# Altium integrated library TI_Logic_Little_Logic.IntLib: 1164 symbols (part 11 of 35)
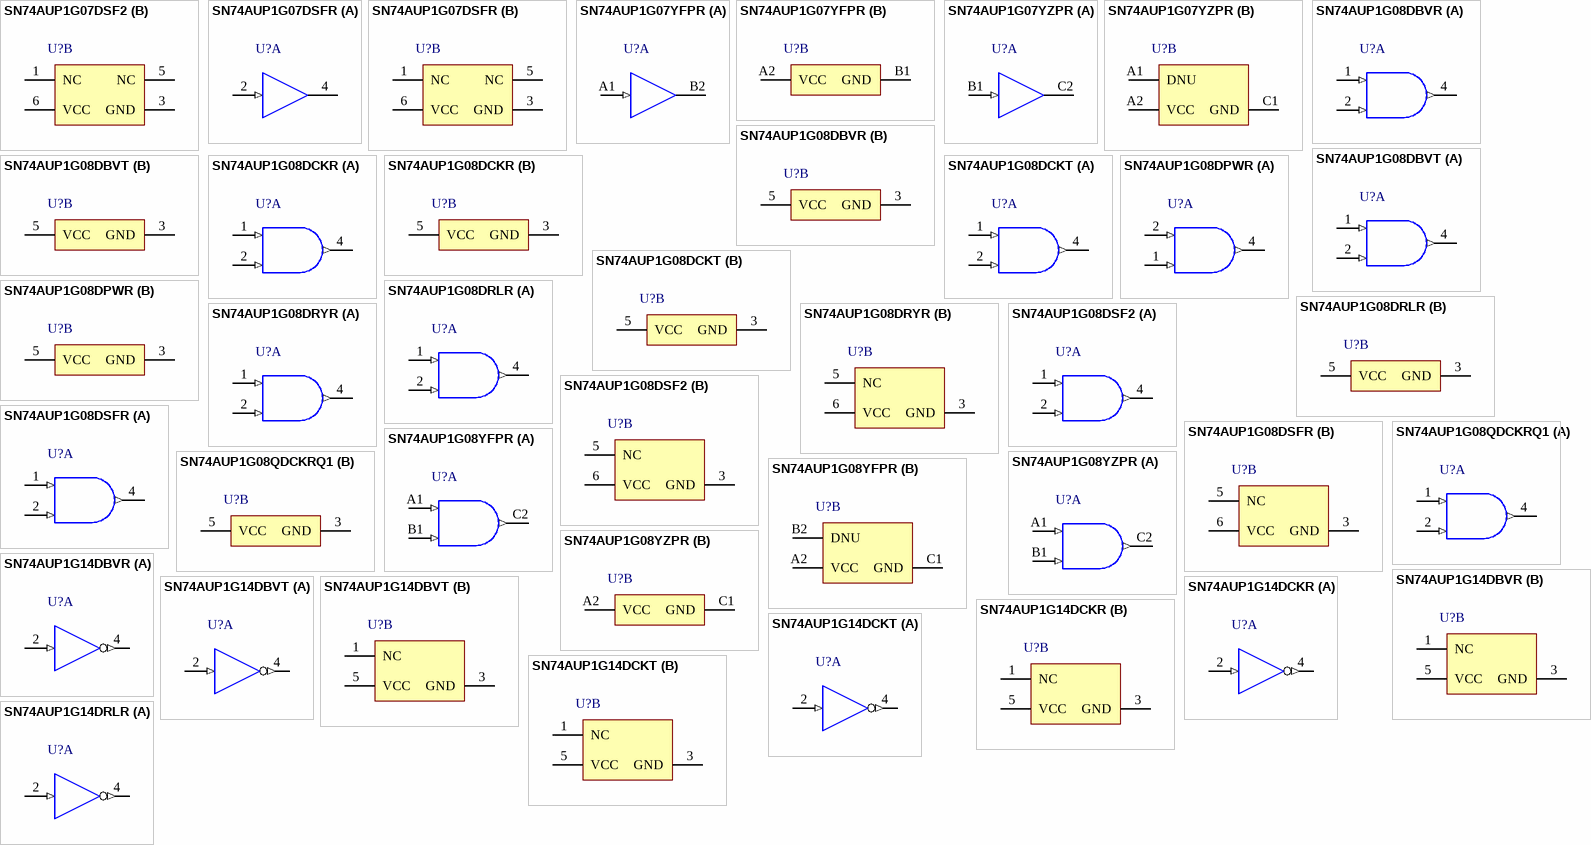
[diagram p70: symbols SN74AUP1G07DSF2 to SN74AUP1G14DRLR]

## SN74AUP1G08DRYR
designator U?
Low-Power Single 2-Input Positive-AND Gate, DRY0006A, LARGE T&R; Generic Part Number: SN74AUP1G08; Manufacturer: Texas Instruments; PartNumber: SN74AUP1G08DRYR; VCC(Min)(V): 0.8; VCC(Max)(V): 3.6; Output Type: CMOS; ICC @ Nom Voltage(Max)(mA): 0.0009; Bits(#): 1; F @ Nom Voltage(Max)(Mhz): 100; Rating: Catalog; Technology Family: AUP; Voltage(Nom)(V): 0.8,1.2,1.5,1.8,2.5,3.3; Schmitt Trigger: No; Output Drive (IOL/IOH)(Max)(mA): 20/-20; tpd @ Nom Voltage(Max)(ns): 32.8,20.9,14.2,11,7.6,6.2; Logic: True; Gate Type: AND; DatasheetVersion: SCES502O; PackageReference: DRY0006A; Supplier 1: Mouser; Supplier Part Number 1: 595-SN74AUP1G08DRYR; Supplier 2: Digi-Key; Supplier Part Number 2: 296-27268-2-ND; Supplier 3: Digi-Key; Supplier Part Number 3: 296-27268-1-ND; Supplier 4: Digi-Key; Supplier Part Number 4: 296-27268-6-ND; Input Type: CMOS; Operating Temperature Range(C): -40 to 85; Sub-Family: AND Gate; 3-State Output: No; ComponentLink1Description: Manufacturer URL; ComponentLink1URL: http://www.ti.com/; ComponentLink2Description: Datasheet; ComponentLink2URL: http://www.ti.com/lit/ds/symlink/sn74aup1g08.pdf
footprint DRY0006A_V (SON, 6-Leads, Body 1.45x1mm, Pitch 0.5mm)
part A pins: 1 A (in) "Input A", 2 B (in) "Input B", 4 Y (out) "Output Y"
part B pins: 3 GND (power) "Ground", 5 NC "No internal connection", 6 VCC (power) "Power Pin"

## SN74AUP1G08DSF2
designator U?
Low-Power Single 2-Input Positive-AND Gate, DSF0006A, LARGE T&R; Generic Part Number: SN74AUP1G08; Manufacturer: Texas Instruments; PartNumber: SN74AUP1G08DSF2; VCC(Min)(V): 0.8; VCC(Max)(V): 3.6; Output Type: CMOS; ICC @ Nom Voltage(Max)(mA): 0.0009; Bits(#): 1; F @ Nom Voltage(Max)(Mhz): 100; Rating: Catalog; Technology Family: AUP; Voltage(Nom)(V): 0.8,1.2,1.5,1.8,2.5,3.3; Schmitt Trigger: No; Output Drive (IOL/IOH)(Max)(mA): 20/-20; tpd @ Nom Voltage(Max)(ns): 32.8,20.9,14.2,11,7.6,6.2; Logic: True; Gate Type: AND; DatasheetVersion: SCES502O; PackageReference: DSF0006A; Supplier 1: Mouser; Supplier Part Number 1: 595-SN74AUP1G08DSF2; Supplier 2: Digi-Key; Supplier Part Number 2: 296-29563-2-ND; Supplier 3: Digi-Key; Supplier Part Number 3: 296-29563-1-ND; Supplier 4: Digi-Key; Supplier Part Number 4: 296-29563-6-ND; Input Type: CMOS; Operating Temperature Range(C): -40 to 85; Sub-Family: AND Gate; 3-State Output: No; ComponentLink1Description: Manufacturer URL; ComponentLink1URL: http://www.ti.com/; ComponentLink2Description: Datasheet; ComponentLink2URL: http://www.ti.com/lit/ds/symlink/sn74aup1g08.pdf
footprint DSF0006A_V (SON, 6-Leads, Body 1x1mm, Pitch 0.35mm, TI Recommend)
part A pins: 1 A (in) "Input A", 2 B (in) "Input B", 4 Y (out) "Output Y"
part B pins: 3 GND (power) "Ground", 5 NC "No internal connection", 6 VCC (power) "Power Pin"

## SN74AUP1G08DSFR
designator U?
Low-Power Single 2-Input Positive-AND Gate, DSF0006A, LARGE T&R; Generic Part Number: SN74AUP1G08; Manufacturer: Texas Instruments; PartNumber: SN74AUP1G08DSFR; VCC(Min)(V): 0.8; VCC(Max)(V): 3.6; Output Type: CMOS; ICC @ Nom Voltage(Max)(mA): 0.0009; Bits(#): 1; F @ Nom Voltage(Max)(Mhz): 100; Rating: Catalog; Technology Family: AUP; Voltage(Nom)(V): 0.8,1.2,1.5,1.8,2.5,3.3; Schmitt Trigger: No; Output Drive (IOL/IOH)(Max)(mA): 20/-20; tpd @ Nom Voltage(Max)(ns): 32.8,20.9,14.2,11,7.6,6.2; Logic: True; Gate Type: AND; DatasheetVersion: SCES502O; PackageReference: DSF0006A; Supplier 1: Mouser; Supplier Part Number 1: 595-SN74AUP1G08DSFR; Supplier 2: Digi-Key; Supplier Part Number 2: 296-25616-2-ND; Supplier 3: Digi-Key; Supplier Part Number 3: 296-25616-1-ND; Supplier 4: Digi-Key; Supplier Part Number 4: 296-25616-6-ND; Input Type: CMOS; Operating Temperature Range(C): -40 to 85; Sub-Family: AND Gate; 3-State Output: No; ComponentLink1Description: Manufacturer URL; ComponentLink1URL: http://www.ti.com/; ComponentLink2Description: Datasheet; ComponentLink2URL: http://www.ti.com/lit/ds/symlink/sn74aup1g08.pdf
footprint DSF0006A_V (SON, 6-Leads, Body 1x1mm, Pitch 0.35mm, TI Recommend)
part A pins: 1 A (in) "Input A", 2 B (in) "Input B", 4 Y (out) "Output Y"
part B pins: 3 GND (power) "Ground", 5 NC "No internal connection", 6 VCC (power) "Power Pin"

## SN74AUP1G08QDCKRQ1
designator U?
Automotive Catalog Low-Power Single 2-Input Positive-AND Gate, DCK0005A, LARGE T&R; Generic Part Number: SN74AUP1G08-Q1; Manufacturer: Texas Instruments; PartNumber: SN74AUP1G08QDCKRQ1; VCC(Min)(V): 0.8; VCC(Max)(V): 3.6; Output Type: CMOS; ICC @ Nom Voltage(Max)(mA): 0.0009; Bits(#): 1; F @ Nom Voltage(Max)(Mhz): 100; Technology Family: AUP; Voltage(Nom)(V): 0.8,1.2,1.5,1.8,2.5,3.3; Schmitt Trigger: No; Output Drive (IOL/IOH)(Max)(mA): 20/-20; tpd @ Nom Voltage(Max)(ns): 32.8,20.9,14.2,11,7.6,6.2; Logic: True; Gate Type: AND; DatasheetVersion: SCES847; PackageReference: DCK0005A; Supplier 1: Mouser; Supplier Part Number 1: 595-74AUP1G08QDCKRQ1; Supplier 2: Digi-Key; Supplier Part Number 2: SN74AUP1G08QDCKRQ1TR-ND; Supplier 3: Digi-Key; Supplier Part Number 3: SN74AUP1G08QDCKRQ1CT-ND; Supplier 4: Digi-Key; Supplier Part Number 4: SN74AUP1G08QDCKRQ1DKR-ND; Input Type: CMOS; Operating Temperature Range(C): -40 to 125; Rating: Automotive; Sub-Family: AND Gate; 3-State Output: No; ComponentLink1Description: Manufacturer URL; ComponentLink1URL: http://www.ti.com/; ComponentLink2Description: Datasheet; ComponentLink2URL: http://www.ti.com/lit/ds/symlink/sn74aup1g08-q1.pdf
footprint DCK0005A_N (SOT23, 5-Leads, Body 2.15x1.4mm, Pitch 0.65mm, IPC Medium Density)
footprint DCK0005A_M (SOT23, 5-Leads, Body 2.15x1.4mm, Pitch 0.65mm, IPC Low Density)
footprint DCK0005A_L (SOT23, 5-Leads, Body 2.15x1.4mm, Pitch 0.65mm, IPC High Density)
part A pins: 1 A (in) "Input A", 2 B (in) "Input B", 4 Y (out) "Output Y"
part B pins: 3 GND (power) "Ground Pin", 5 VCC (power) "Power Pin"

## SN74AUP1G08YFPR
designator U?
Low-Power Single 2-Input Positive-AND Gate, YZP0006AAAA, LARGE T&R; Generic Part Number: SN74AUP1G08; Manufacturer: Texas Instruments; PartNumber: SN74AUP1G08YFPR; VCC(Min)(V): 0.8; VCC(Max)(V): 3.6; Output Type: CMOS; ICC @ Nom Voltage(Max)(mA): 0.0009; Bits(#): 1; F @ Nom Voltage(Max)(Mhz): 100; Rating: Catalog; Technology Family: AUP; Voltage(Nom)(V): 0.8,1.2,1.5,1.8,2.5,3.3; Schmitt Trigger: No; Output Drive (IOL/IOH)(Max)(mA): 20/-20; tpd @ Nom Voltage(Max)(ns): 32.8,20.9,14.2,11,7.6,6.2; Logic: True; Gate Type: AND; DatasheetVersion: SCES502O; PackageReference: YZP0006AAAA; Supplier 1: Mouser; Supplier Part Number 1: 595-SN74AUP1G08YFPR; Supplier 2: Digi-Key; Supplier Part Number 2: 296-25393-2-ND; Supplier 3: Digi-Key; Supplier Part Number 3: 296-25393-1-ND; Supplier 4: Digi-Key; Supplier Part Number 4: 296-25393-6-ND; Input Type: CMOS; Operating Temperature Range(C): -40 to 85; Sub-Family: AND Gate; 3-State Output: No; ComponentLink1Description: Manufacturer URL; ComponentLink1URL: http://www.ti.com/; ComponentLink2Description: Datasheet; ComponentLink2URL: http://www.ti.com/lit/ds/symlink/sn74aup1g08.pdf
footprint YZP0006AAAA (BGA, 6-Balls, Body 1.16x0.76mm, Pitch 0.4mm)
part A pins: A1 A (in) "Input A", B1 B (in) "Input B", C2 Y (out) "Output Y"
part B pins: A2 VCC (power) "Power Pin", B2 DNU "Do not use", C1 GND (power) "Ground"

## SN74AUP1G08YZPR
designator U?
Low-Power Single 2-Input Positive-AND Gate, YZP0005ADAD, LARGE T&R; Generic Part Number: SN74AUP1G08; Manufacturer: Texas Instruments; PartNumber: SN74AUP1G08YZPR; VCC(Min)(V): 0.8; VCC(Max)(V): 3.6; Output Type: CMOS; ICC @ Nom Voltage(Max)(mA): 0.0009; Bits(#): 1; F @ Nom Voltage(Max)(Mhz): 100; Rating: Catalog; Technology Family: AUP; Voltage(Nom)(V): 0.8,1.2,1.5,1.8,2.5,3.3; Schmitt Trigger: No; Output Drive (IOL/IOH)(Max)(mA): 20/-20; tpd @ Nom Voltage(Max)(ns): 32.8,20.9,14.2,11,7.6,6.2; Logic: True; Gate Type: AND; DatasheetVersion: SCES502O; PackageReference: YZP0005ADAD; Supplier 1: Mouser; Supplier Part Number 1: 595-SN74AUP1G08YZPR; Supplier 2: Digi-Key; Supplier Part Number 2: 296-17366-2-ND; Supplier 3: Digi-Key; Supplier Part Number 3: 296-17366-1-ND; Supplier 4: Digi-Key; Supplier Part Number 4: 296-17366-6-ND; Input Type: CMOS; Operating Temperature Range(C): -40 to 85; Sub-Family: AND Gate; 3-State Output: No; ComponentLink1Description: Manufacturer URL; ComponentLink1URL: http://www.ti.com/; ComponentLink2Description: Datasheet; ComponentLink2URL: http://www.ti.com/lit/ds/symlink/sn74aup1g08.pdf
footprint YZP0005ADAD (BGA, 5-Balls, Body 1.39x0.89mm, Pitch 0.5mm)
part A pins: A1 A (in) "Input", B1 B (in) "Input", C2 Y (out) "Output"
part B pins: A2 VCC (power) "Power pin", C1 GND (power) "Ground"

## SN74AUP1G14DBVR
designator U?
Low-Power Single Schmitt-Trigger Inverter, DBV0005A, LARGE T&R; Generic Part Number: SN74AUP1G14; Manufacturer: Texas Instruments; PartNumber: SN74AUP1G14DBVR; VCC(Min)(V): 0.8; VCC(Max)(V): 3.6; Output Type: CMOS; ICC @ Nom Voltage(Max)(mA): 0.0009; Bits(#): 1; F @ Nom Voltage(Max)(Mhz): 100; Rating: Catalog; Technology Family: AUP; Voltage(Nom)(V): 0.8,1.2,1.5,1.8,2.5,3.3; Schmitt Trigger: No; Output Drive (IOL/IOH)(Max)(mA): 20/-20; tpd @ Nom Voltage(Max)(ns): 25.7,17.1,12.3,10.3,7.4,6.2; Logic: Inverting; Sub-Family: Inverting Buffer/Driver; DatasheetVersion: SCES578I; PackageReference: DBV0005A; Supplier 1: Mouser; Supplier Part Number 1: 595-SN74AUP1G14DBVR; Supplier 2: Digi-Key; Supplier Part Number 2: 296-18213-2-ND; Supplier 3: Digi-Key; Supplier Part Number 3: 296-18213-1-ND; Supplier 4: Digi-Key; Supplier Part Number 4: 296-18213-6-ND; Input Type: CMOS; Operating Temperature Range(C): -40 to 85; 3-State Output: No; ComponentLink1Description: Manufacturer URL; ComponentLink1URL: http://www.ti.com/; ComponentLink2Description: Datasheet; ComponentLink2URL: http://www.ti.com/lit/ds/symlink/sn74aup1g14.pdf
footprint DBV0005A_N (SOT23, 5-Leads, Body 3.05x1.75mm, Pitch 0.95mm, IPC Medium Density)
footprint DBV0005A_M (SOT23, 5-Leads, Body 3.05x1.75mm, Pitch 0.95mm, IPC Low Density)
footprint DBV0005A_L (SOT23, 5-Leads, Body 3.05x1.75mm, Pitch 0.95mm, IPC High Density)
part A pins: 2 A (in) "Input A", 4 Y (out) "Output Y"
part B pins: 1 NC "Ground", 3 GND (power) "Ground Pin", 5 VCC (power) "Power Pin"

## SN74AUP1G14DBVT
designator U?
Low-Power Single Schmitt-Trigger Inverter, DBV0005A, SMALL T&R; Generic Part Number: SN74AUP1G14; Manufacturer: Texas Instruments; PartNumber: SN74AUP1G14DBVT; VCC(Min)(V): 0.8; VCC(Max)(V): 3.6; Output Type: CMOS; ICC @ Nom Voltage(Max)(mA): 0.0009; Bits(#): 1; F @ Nom Voltage(Max)(Mhz): 100; Rating: Catalog; Technology Family: AUP; Voltage(Nom)(V): 0.8,1.2,1.5,1.8,2.5,3.3; Schmitt Trigger: No; Output Drive (IOL/IOH)(Max)(mA): 20/-20; tpd @ Nom Voltage(Max)(ns): 25.7,17.1,12.3,10.3,7.4,6.2; Logic: Inverting; Sub-Family: Inverting Buffer/Driver; DatasheetVersion: SCES578I; PackageReference: DBV0005A; Supplier 1: Mouser; Supplier Part Number 1: 595-SN74AUP1G14DBVT; Supplier 2: Digi-Key; Supplier Part Number 2: 296-41492-2-ND; Supplier 3: Digi-Key; Supplier Part Number 3: 296-41492-1-ND; Supplier 4: Digi-Key; Supplier Part Number 4: 296-41492-6-ND; Input Type: CMOS; Operating Temperature Range(C): -40 to 85; 3-State Output: No; ComponentLink1Description: Manufacturer URL; ComponentLink1URL: http://www.ti.com/; ComponentLink2Description: Datasheet; ComponentLink2URL: http://www.ti.com/lit/ds/symlink/sn74aup1g14.pdf
footprint DBV0005A_N (SOT23, 5-Leads, Body 3.05x1.75mm, Pitch 0.95mm, IPC Medium Density)
footprint DBV0005A_M (SOT23, 5-Leads, Body 3.05x1.75mm, Pitch 0.95mm, IPC Low Density)
footprint DBV0005A_L (SOT23, 5-Leads, Body 3.05x1.75mm, Pitch 0.95mm, IPC High Density)
part A pins: 2 A (in) "Input A", 4 Y (out) "Output Y"
part B pins: 1 NC "Ground", 3 GND (power) "Ground Pin", 5 VCC (power) "Power Pin"

## SN74AUP1G14DCKR
designator U?
Low-Power Single Schmitt-Trigger Inverter, DCK0005A, LARGE T&R; Generic Part Number: SN74AUP1G14; Manufacturer: Texas Instruments; PartNumber: SN74AUP1G14DCKR; VCC(Min)(V): 0.8; VCC(Max)(V): 3.6; Output Type: CMOS; ICC @ Nom Voltage(Max)(mA): 0.0009; Bits(#): 1; F @ Nom Voltage(Max)(Mhz): 100; Rating: Catalog; Technology Family: AUP; Voltage(Nom)(V): 0.8,1.2,1.5,1.8,2.5,3.3; Schmitt Trigger: No; Output Drive (IOL/IOH)(Max)(mA): 20/-20; tpd @ Nom Voltage(Max)(ns): 25.7,17.1,12.3,10.3,7.4,6.2; Logic: Inverting; Sub-Family: Inverting Buffer/Driver; DatasheetVersion: SCES578I; PackageReference: DCK0005A; Supplier 1: Mouser; Supplier Part Number 1: 595-SN74AUP1G14DCKR; Supplier 2: Digi-Key; Supplier Part Number 2: 296-19076-2-ND; Supplier 3: Digi-Key; Supplier Part Number 3: 296-19076-1-ND; Supplier 4: Digi-Key; Supplier Part Number 4: 296-19076-6-ND; Input Type: CMOS; Operating Temperature Range(C): -40 to 85; 3-State Output: No; ComponentLink1Description: Manufacturer URL; ComponentLink1URL: http://www.ti.com/; ComponentLink2Description: Datasheet; ComponentLink2URL: http://www.ti.com/lit/ds/symlink/sn74aup1g14.pdf
footprint DCK0005A_N (SOT23, 5-Leads, Body 2.15x1.4mm, Pitch 0.65mm, IPC Medium Density)
footprint DCK0005A_M (SOT23, 5-Leads, Body 2.15x1.4mm, Pitch 0.65mm, IPC Low Density)
footprint DCK0005A_L (SOT23, 5-Leads, Body 2.15x1.4mm, Pitch 0.65mm, IPC High Density)
part A pins: 2 A (in) "Input A", 4 Y (out) "Output Y"
part B pins: 1 NC "Ground", 3 GND (power) "Ground Pin", 5 VCC (power) "Power Pin"

## SN74AUP1G14DCKT
designator U?
Low-Power Single Schmitt-Trigger Inverter, DCK0005A, SMALL T&R; Generic Part Number: SN74AUP1G14; Manufacturer: Texas Instruments; PartNumber: SN74AUP1G14DCKT; VCC(Min)(V): 0.8; VCC(Max)(V): 3.6; Output Type: CMOS; ICC @ Nom Voltage(Max)(mA): 0.0009; Bits(#): 1; F @ Nom Voltage(Max)(Mhz): 100; Rating: Catalog; Technology Family: AUP; Voltage(Nom)(V): 0.8,1.2,1.5,1.8,2.5,3.3; Schmitt Trigger: No; Output Drive (IOL/IOH)(Max)(mA): 20/-20; tpd @ Nom Voltage(Max)(ns): 25.7,17.1,12.3,10.3,7.4,6.2; Logic: Inverting; Sub-Family: Inverting Buffer/Driver; DatasheetVersion: SCES578I; PackageReference: DCK0005A; Supplier 1: Mouser; Supplier Part Number 1: 595-SN74AUP1G14DCKT; Supplier 2: Digi-Key; Supplier Part Number 2: 296-41493-2-ND; Supplier 3: Digi-Key; Supplier Part Number 3: 296-41493-1-ND; Supplier 4: Digi-Key; Supplier Part Number 4: 296-41493-6-ND; Input Type: CMOS; Operating Temperature Range(C): -40 to 85; 3-State Output: No; ComponentLink1Description: Manufacturer URL; ComponentLink1URL: http://www.ti.com/; ComponentLink2Description: Datasheet; ComponentLink2URL: http://www.ti.com/lit/ds/symlink/sn74aup1g14.pdf
footprint DCK0005A_N (SOT23, 5-Leads, Body 2.15x1.4mm, Pitch 0.65mm, IPC Medium Density)
footprint DCK0005A_M (SOT23, 5-Leads, Body 2.15x1.4mm, Pitch 0.65mm, IPC Low Density)
footprint DCK0005A_L (SOT23, 5-Leads, Body 2.15x1.4mm, Pitch 0.65mm, IPC High Density)
part A pins: 2 A (in) "Input A", 4 Y (out) "Output Y"
part B pins: 1 NC "Ground", 3 GND (power) "Ground Pin", 5 VCC (power) "Power Pin"

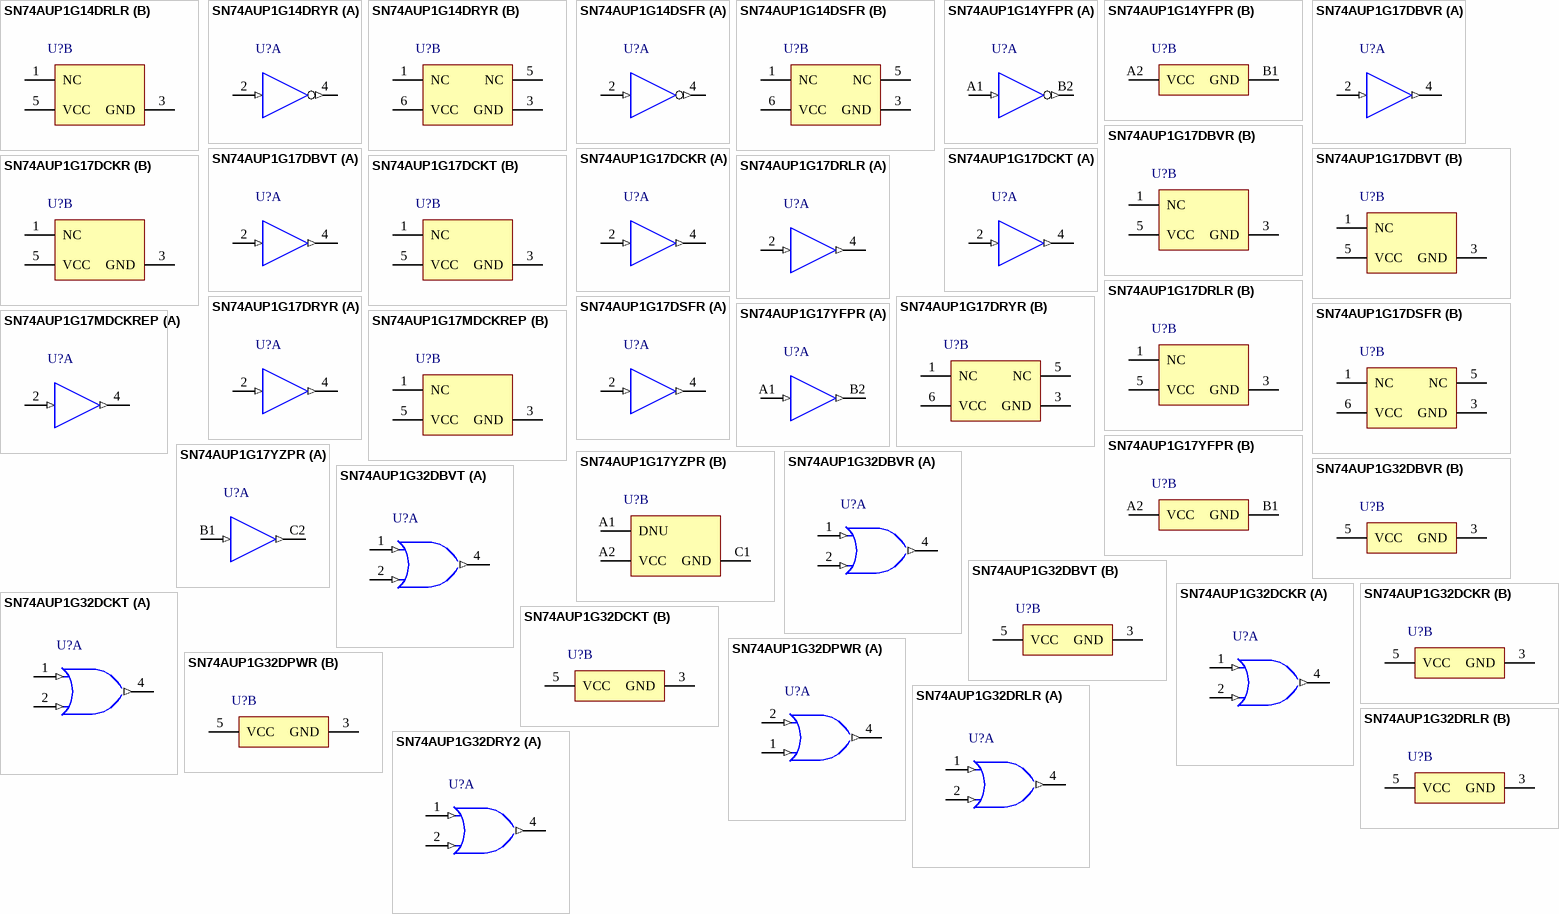
[diagram p18: symbols SN74AUP1G14DRLR to SN74AUP1G32DRY2]

## SN74AUP1G14DRLR
designator U?
Low-Power Single Schmitt-Trigger Inverter, DRL0005A, LARGE T&R; Generic Part Number: SN74AUP1G14; Manufacturer: Texas Instruments; PartNumber: SN74AUP1G14DRLR; VCC(Min)(V): 0.8; VCC(Max)(V): 3.6; Output Type: CMOS; ICC @ Nom Voltage(Max)(mA): 0.0009; Bits(#): 1; F @ Nom Voltage(Max)(Mhz): 100; Rating: Catalog; Technology Family: AUP; Voltage(Nom)(V): 0.8,1.2,1.5,1.8,2.5,3.3; Schmitt Trigger: No; Output Drive (IOL/IOH)(Max)(mA): 20/-20; tpd @ Nom Voltage(Max)(ns): 25.7,17.1,12.3,10.3,7.4,6.2; Logic: Inverting; Sub-Family: Inverting Buffer/Driver; DatasheetVersion: SCES578I; PackageReference: DRL0005A; Supplier 1: Mouser; Supplier Part Number 1: 595-SN74AUP1G14DRLR; Supplier 2: Digi-Key; Supplier Part Number 2: 296-18314-2-ND; Supplier 3: Digi-Key; Supplier Part Number 3: 296-18314-1-ND; Supplier 4: Digi-Key; Supplier Part Number 4: 296-18314-6-ND; Input Type: CMOS; Operating Temperature Range(C): -40 to 85; 3-State Output: No; ComponentLink1Description: Manufacturer URL; ComponentLink1URL: http://www.ti.com/; ComponentLink2Description: Datasheet; ComponentLink2URL: http://www.ti.com/lit/ds/symlink/sn74aup1g14.pdf
footprint DRL0005A_N (SOT23, 5-Leads, Body 1.7x1.3mm, Pitch 0.5mm, IPC Medium Density)
footprint DRL0005A_M (SOT23, 5-Leads, Body 1.7x1.3mm, Pitch 0.5mm, IPC Low Density)
footprint DRL0005A_L (SOT23, 5-Leads, Body 1.7x1.3mm, Pitch 0.5mm, IPC High Density)
part A pins: 2 A (in) "Input A", 4 Y (out) "Output Y"
part B pins: 1 NC "Ground", 3 GND (power) "Ground Pin", 5 VCC (power) "Power Pin"

## SN74AUP1G14DRYR
designator U?
Low-Power Single Schmitt-Trigger Inverter, DRY0006A, LARGE T&R; Generic Part Number: SN74AUP1G14; Manufacturer: Texas Instruments; PartNumber: SN74AUP1G14DRYR; VCC(Min)(V): 0.8; VCC(Max)(V): 3.6; Output Type: CMOS; ICC @ Nom Voltage(Max)(mA): 0.0009; Bits(#): 1; F @ Nom Voltage(Max)(Mhz): 100; Rating: Catalog; Technology Family: AUP; Voltage(Nom)(V): 0.8,1.2,1.5,1.8,2.5,3.3; Schmitt Trigger: No; Output Drive (IOL/IOH)(Max)(mA): 20/-20; tpd @ Nom Voltage(Max)(ns): 25.7,17.1,12.3,10.3,7.4,6.2; Logic: Inverting; Sub-Family: Inverting Buffer/Driver; DatasheetVersion: SCES578I; PackageReference: DRY0006A; Supplier 1: Mouser; Supplier Part Number 1: 595-SN74AUP1G14DRYR; Supplier 2: Digi-Key; Supplier Part Number 2: 296-27271-2-ND; Supplier 3: Digi-Key; Supplier Part Number 3: 296-27271-1-ND; Supplier 4: Digi-Key; Supplier Part Number 4: 296-27271-6-ND; Input Type: CMOS; Operating Temperature Range(C): -40 to 85; 3-State Output: No; ComponentLink1Description: Manufacturer URL; ComponentLink1URL: http://www.ti.com/; ComponentLink2Description: Datasheet; ComponentLink2URL: http://www.ti.com/lit/ds/symlink/sn74aup1g14.pdf
footprint DRY0006A_V (SON, 6-Leads, Body 1.45x1mm, Pitch 0.5mm)
part A pins: 2 A (in), 4 Y (out)
part B pins: 1 NC, 3 GND (power), 5 NC, 6 VCC (power)

## SN74AUP1G14DSFR
designator U?
Low-Power Single Schmitt-Trigger Inverter, DSF0006A, LARGE T&R; Generic Part Number: SN74AUP1G14; Manufacturer: Texas Instruments; PartNumber: SN74AUP1G14DSFR; VCC(Min)(V): 0.8; VCC(Max)(V): 3.6; Output Type: CMOS; ICC @ Nom Voltage(Max)(mA): 0.0009; Bits(#): 1; F @ Nom Voltage(Max)(Mhz): 100; Rating: Catalog; Technology Family: AUP; Voltage(Nom)(V): 0.8,1.2,1.5,1.8,2.5,3.3; Schmitt Trigger: No; Output Drive (IOL/IOH)(Max)(mA): 20/-20; tpd @ Nom Voltage(Max)(ns): 25.7,17.1,12.3,10.3,7.4,6.2; Logic: Inverting; Sub-Family: Inverting Buffer/Driver; DatasheetVersion: SCES578I; PackageReference: DSF0006A; Supplier 1: Mouser; Supplier Part Number 1: 595-SN74AUP1G14DSFR; Supplier 2: Digi-Key; Supplier Part Number 2: 296-27309-2-ND; Supplier 3: Digi-Key; Supplier Part Number 3: 296-27309-1-ND; Supplier 4: Digi-Key; Supplier Part Number 4: 296-27309-6-ND; Input Type: CMOS; Operating Temperature Range(C): -40 to 85; 3-State Output: No; ComponentLink1Description: Manufacturer URL; ComponentLink1URL: http://www.ti.com/; ComponentLink2Description: Datasheet; ComponentLink2URL: http://www.ti.com/lit/ds/symlink/sn74aup1g14.pdf
footprint DSF0006A_V (SON, 6-Leads, Body 1x1mm, Pitch 0.35mm, TI Recommend)
part A pins: 2 A (in), 4 Y (out)
part B pins: 1 NC, 3 GND (power), 5 NC, 6 VCC (power)

## SN74AUP1G14YFPR
designator U?
Low-Power Single Schmitt-Trigger Inverter, YZP0004AAAA, LARGE T&R; Generic Part Number: SN74AUP1G14; Manufacturer: Texas Instruments; PartNumber: SN74AUP1G14YFPR; VCC(Min)(V): 0.8; VCC(Max)(V): 3.6; Output Type: CMOS; ICC @ Nom Voltage(Max)(mA): 0.0009; Bits(#): 1; F @ Nom Voltage(Max)(Mhz): 100; Rating: Catalog; Technology Family: AUP; Voltage(Nom)(V): 0.8,1.2,1.5,1.8,2.5,3.3; Schmitt Trigger: No; Output Drive (IOL/IOH)(Max)(mA): 20/-20; tpd @ Nom Voltage(Max)(ns): 25.7,17.1,12.3,10.3,7.4,6.2; Logic: Inverting; Sub-Family: Inverting Buffer/Driver; DatasheetVersion: SCES578I; PackageReference: YZP0004AAAA; Supplier 1: Mouser; Supplier Part Number 1: 595-SN74AUP1G14YFPR; Supplier 2: Digi-Key; Supplier Part Number 2: 296-25199-2-ND; Supplier 3: Digi-Key; Supplier Part Number 3: 296-25199-1-ND; Supplier 4: Digi-Key; Supplier Part Number 4: 296-25199-6-ND; Input Type: CMOS; Operating Temperature Range(C): -40 to 85; 3-State Output: No; ComponentLink1Description: Manufacturer URL; ComponentLink1URL: http://www.ti.com/; ComponentLink2Description: Datasheet; ComponentLink2URL: http://www.ti.com/lit/ds/symlink/sn74aup1g14.pdf
footprint YZP0004AAAA (BGA, 4-Balls, Body 0.76x0.76mm, Pitch 0.4mm)
part A pins: A1 A (in) "Input", B2 Y (out) "Output"
part B pins: A2 VCC (power) "Power pin", B1 GND (power) "Ground"

## SN74AUP1G17DBVR
designator U?
Low-Power Single Schmitt-Trigger Buffer, DBV0005A, LARGE T&R; Generic Part Number: SN74AUP1G17; Manufacturer: Texas Instruments; PartNumber: SN74AUP1G17DBVR; VCC(Min)(V): 0.8; VCC(Max)(V): 3.6; Output Type: CMOS; ICC @ Nom Voltage(Max)(mA): 0.0009; Bits(#): 1; F @ Nom Voltage(Max)(Mhz): 100; Rating: Catalog; Technology Family: AUP; Voltage(Nom)(V): 0.8,1.2,1.5,1.8,2.5,3.3; Schmitt Trigger: Yes; Output Drive (IOL/IOH)(Max)(mA): 20/-20; tpd @ Nom Voltage(Max)(ns): 35.1,18.1,12.9,11,7.9,6.7; Logic: True; Sub-Family: Non-Inverting Buffer/Driver; 3-State Output: No; DatasheetVersion: SCES579I; PackageReference: DBV0005A; Supplier 1: Mouser; Supplier Part Number 1: 595-SN74AUP1G17DBVR; Supplier 2: Digi-Key; Supplier Part Number 2: 296-19077-2-ND; Supplier 3: Digi-Key; Supplier Part Number 3: 296-19077-1-ND; Supplier 4: Digi-Key; Supplier Part Number 4: 296-19077-6-ND; Input Type: CMOS; Operating Temperature Range(C): -40 to 85; ComponentLink1Description: Manufacturer URL; ComponentLink1URL: http://www.ti.com/; ComponentLink2Description: Datasheet; ComponentLink2URL: http://www.ti.com/lit/ds/symlink/sn74aup1g17.pdf
footprint DBV0005A_N (SOT23, 5-Leads, Body 3.05x1.75mm, Pitch 0.95mm, IPC Medium Density)
footprint DBV0005A_M (SOT23, 5-Leads, Body 3.05x1.75mm, Pitch 0.95mm, IPC Low Density)
footprint DBV0005A_L (SOT23, 5-Leads, Body 3.05x1.75mm, Pitch 0.95mm, IPC High Density)
part A pins: 2 A (in) "Input", 4 Y (out) "Output"
part B pins: 1 NC "Ground", 3 GND (power) "Ground Pin", 5 VCC (power) "Power Pin"

## SN74AUP1G17DBVT
designator U?
Low-Power Single Schmitt-Trigger Buffer, DBV0005A, SMALL T&R; Generic Part Number: SN74AUP1G17; Manufacturer: Texas Instruments; PartNumber: SN74AUP1G17DBVT; VCC(Min)(V): 0.8; VCC(Max)(V): 3.6; Output Type: CMOS; ICC @ Nom Voltage(Max)(mA): 0.0009; Bits(#): 1; F @ Nom Voltage(Max)(Mhz): 100; Rating: Catalog; Technology Family: AUP; Voltage(Nom)(V): 0.8,1.2,1.5,1.8,2.5,3.3; Schmitt Trigger: Yes; Output Drive (IOL/IOH)(Max)(mA): 20/-20; tpd @ Nom Voltage(Max)(ns): 35.1,18.1,12.9,11,7.9,6.7; Logic: True; Sub-Family: Non-Inverting Buffer/Driver; 3-State Output: No; DatasheetVersion: SCES579I; PackageReference: DBV0005A; Supplier 1: Mouser; Supplier Part Number 1: 595-SN74AUP1G17DBVT; Supplier 2: Digi-Key; Supplier Part Number 2: SN74AUP1G17DBVT-ND; Input Type: CMOS; Operating Temperature Range(C): -40 to 85; ComponentLink1Description: Manufacturer URL; ComponentLink1URL: http://www.ti.com/; ComponentLink2Description: Datasheet; ComponentLink2URL: http://www.ti.com/lit/ds/symlink/sn74aup1g17.pdf
footprint DBV0005A_N (SOT23, 5-Leads, Body 3.05x1.75mm, Pitch 0.95mm, IPC Medium Density)
footprint DBV0005A_M (SOT23, 5-Leads, Body 3.05x1.75mm, Pitch 0.95mm, IPC Low Density)
footprint DBV0005A_L (SOT23, 5-Leads, Body 3.05x1.75mm, Pitch 0.95mm, IPC High Density)
part A pins: 2 A (in) "Input", 4 Y (out) "Output"
part B pins: 1 NC "Ground", 3 GND (power) "Ground Pin", 5 VCC (power) "Power Pin"

## SN74AUP1G17DCKR
designator U?
Low-Power Single Schmitt-Trigger Buffer, DCK0005A, LARGE T&R; Generic Part Number: SN74AUP1G17; Manufacturer: Texas Instruments; PartNumber: SN74AUP1G17DCKR; VCC(Min)(V): 0.8; VCC(Max)(V): 3.6; Output Type: CMOS; ICC @ Nom Voltage(Max)(mA): 0.0009; Bits(#): 1; F @ Nom Voltage(Max)(Mhz): 100; Rating: Catalog; Technology Family: AUP; Voltage(Nom)(V): 0.8,1.2,1.5,1.8,2.5,3.3; Schmitt Trigger: Yes; Output Drive (IOL/IOH)(Max)(mA): 20/-20; tpd @ Nom Voltage(Max)(ns): 35.1,18.1,12.9,11,7.9,6.7; Logic: True; Sub-Family: Non-Inverting Buffer/Driver; 3-State Output: No; DatasheetVersion: SCES579I; PackageReference: DCK0005A; Supplier 1: Mouser; Supplier Part Number 1: 595-SN74AUP1G17DCKR; Supplier 2: Digi-Key; Supplier Part Number 2: 296-18209-2-ND; Supplier 3: Digi-Key; Supplier Part Number 3: 296-18209-1-ND; Supplier 4: Digi-Key; Supplier Part Number 4: 296-18209-6-ND; Input Type: CMOS; Operating Temperature Range(C): -40 to 85; ComponentLink1Description: Manufacturer URL; ComponentLink1URL: http://www.ti.com/; ComponentLink2Description: Datasheet; ComponentLink2URL: http://www.ti.com/lit/ds/symlink/sn74aup1g17.pdf
footprint DCK0005A_N (SOT23, 5-Leads, Body 2.15x1.4mm, Pitch 0.65mm, IPC Medium Density)
footprint DCK0005A_M (SOT23, 5-Leads, Body 2.15x1.4mm, Pitch 0.65mm, IPC Low Density)
footprint DCK0005A_L (SOT23, 5-Leads, Body 2.15x1.4mm, Pitch 0.65mm, IPC High Density)
part A pins: 2 A (in) "Input", 4 Y (out) "Output"
part B pins: 1 NC "Ground", 3 GND (power) "Ground Pin", 5 VCC (power) "Power Pin"

## SN74AUP1G17DCKT
designator U?
Low-Power Single Schmitt-Trigger Buffer, DCK0005A, SMALL T&R; Generic Part Number: SN74AUP1G17; Manufacturer: Texas Instruments; PartNumber: SN74AUP1G17DCKT; VCC(Min)(V): 0.8; VCC(Max)(V): 3.6; Output Type: CMOS; ICC @ Nom Voltage(Max)(mA): 0.0009; Bits(#): 1; F @ Nom Voltage(Max)(Mhz): 100; Rating: Catalog; Technology Family: AUP; Voltage(Nom)(V): 0.8,1.2,1.5,1.8,2.5,3.3; Schmitt Trigger: Yes; Output Drive (IOL/IOH)(Max)(mA): 20/-20; tpd @ Nom Voltage(Max)(ns): 35.1,18.1,12.9,11,7.9,6.7; Logic: True; Sub-Family: Non-Inverting Buffer/Driver; 3-State Output: No; DatasheetVersion: SCES579I; PackageReference: DCK0005A; Supplier 1: Mouser; Supplier Part Number 1: 595-SN74AUP1G17DCKT; Supplier 2: Digi-Key; Supplier Part Number 2: SN74AUP1G17DCKT-ND; Input Type: CMOS; Operating Temperature Range(C): -40 to 85; ComponentLink1Description: Manufacturer URL; ComponentLink1URL: http://www.ti.com/; ComponentLink2Description: Datasheet; ComponentLink2URL: http://www.ti.com/lit/ds/symlink/sn74aup1g17.pdf
footprint DCK0005A_N (SOT23, 5-Leads, Body 2.15x1.4mm, Pitch 0.65mm, IPC Medium Density)
footprint DCK0005A_M (SOT23, 5-Leads, Body 2.15x1.4mm, Pitch 0.65mm, IPC Low Density)
footprint DCK0005A_L (SOT23, 5-Leads, Body 2.15x1.4mm, Pitch 0.65mm, IPC High Density)
part A pins: 2 A (in) "Input", 4 Y (out) "Output"
part B pins: 1 NC "Ground", 3 GND (power) "Ground Pin", 5 VCC (power) "Power Pin"

## SN74AUP1G17DRLR
designator U?
Low-Power Single Schmitt-Trigger Buffer, DRL0005A; Generic Part Number: SN74AUP1G17; Manufacturer: Texas Instruments; PartNumber: SN74AUP1G17DRLR; VCC(Min)(V): 0.8; VCC(Max)(V): 3.6; Output Type: CMOS; ICC @ Nom Voltage(Max)(mA): 0.0009; Bits(#): 1; F @ Nom Voltage(Max)(Mhz): 100; Rating: Catalog; Technology Family: AUP; Voltage(Nom)(V): 0.8,1.2,1.5,1.8,2.5,3.3; Schmitt Trigger: Yes; Output Drive (IOL/IOH)(Max)(mA): 20/-20; tpd @ Nom Voltage(Max)(ns): 35.1,18.1,12.9,11,7.9,6.7; Logic: True; Sub-Family: Non-Inverting Buffer/Driver; 3-State Output: No; DatasheetVersion: SCES579I; PackageReference: DRL0005A; Supplier 1: Mouser; Supplier Part Number 1: 595-SN74AUP1G17DRLR; Supplier 2: Digi-Key; Supplier Part Number 2: 296-18295-2-ND; Supplier 3: Digi-Key; Supplier Part Number 3: 296-18295-1-ND; Supplier 4: Digi-Key; Supplier Part Number 4: 296-18295-6-ND; Input Type: CMOS; Operating Temperature Range(C): -40 to 85; ComponentLink1Description: Manufacturer URL; ComponentLink1URL: http://www.ti.com/; ComponentLink2Description: Datasheet; ComponentLink2URL: http://www.ti.com/lit/ds/symlink/sn74aup1g17.pdf
footprint DRL0005A_N (SOT23, 5-Leads, Body 1.7x1.3mm, Pitch 0.5mm, IPC Medium Density)
footprint DRL0005A_M (SOT23, 5-Leads, Body 1.7x1.3mm, Pitch 0.5mm, IPC Low Density)
footprint DRL0005A_L (SOT23, 5-Leads, Body 1.7x1.3mm, Pitch 0.5mm, IPC High Density)
part A pins: 2 A (in) "Input", 4 Y (out) "Output"
part B pins: 1 NC "Ground", 3 GND (power) "Ground Pin", 5 VCC (power) "Power Pin"

## SN74AUP1G17DRYR
designator U?
Low-Power Single Schmitt-Trigger Buffer, DRY0006A, LARGE T&R; Generic Part Number: SN74AUP1G17; Manufacturer: Texas Instruments; PartNumber: SN74AUP1G17DRYR; VCC(Min)(V): 0.8; VCC(Max)(V): 3.6; Output Type: CMOS; ICC @ Nom Voltage(Max)(mA): 0.0009; Bits(#): 1; F @ Nom Voltage(Max)(Mhz): 100; Rating: Catalog; Technology Family: AUP; Voltage(Nom)(V): 0.8,1.2,1.5,1.8,2.5,3.3; Schmitt Trigger: Yes; Output Drive (IOL/IOH)(Max)(mA): 20/-20; tpd @ Nom Voltage(Max)(ns): 35.1,18.1,12.9,11,7.9,6.7; Logic: True; Sub-Family: Non-Inverting Buffer/Driver; 3-State Output: No; DatasheetVersion: SCES579I; PackageReference: DRY0006A; Supplier 1: Mouser; Supplier Part Number 1: 595-SN74AUP1G17DRYR; Supplier 2: Digi-Key; Supplier Part Number 2: 296-27342-2-ND; Supplier 3: Digi-Key; Supplier Part Number 3: 296-27342-1-ND; Supplier 4: Digi-Key; Supplier Part Number 4: 296-27342-6-ND; Input Type: CMOS; Operating Temperature Range(C): -40 to 85; ComponentLink1Description: Manufacturer URL; ComponentLink1URL: http://www.ti.com/; ComponentLink2Description: Datasheet; ComponentLink2URL: http://www.ti.com/lit/ds/symlink/sn74aup1g17.pdf
footprint DRY0006A_V (SON, 6-Leads, Body 1.45x1mm, Pitch 0.5mm)
part A pins: 2 A (in) "Input", 4 Y (out) "Output"
part B pins: 1 NC "Not connected", 3 GND (power) "Ground", 5 NC "Not connected", 6 VCC (power) "Power pin"

## SN74AUP1G17DSFR
designator U?
Low-Power Single Schmitt-Trigger Buffer, DSF0006A, LARGE T&R; Generic Part Number: SN74AUP1G17; Manufacturer: Texas Instruments; PartNumber: SN74AUP1G17DSFR; VCC(Min)(V): 0.8; VCC(Max)(V): 3.6; Output Type: CMOS; ICC @ Nom Voltage(Max)(mA): 0.0009; Bits(#): 1; F @ Nom Voltage(Max)(Mhz): 100; Rating: Catalog; Technology Family: AUP; Voltage(Nom)(V): 0.8,1.2,1.5,1.8,2.5,3.3; Schmitt Trigger: Yes; Output Drive (IOL/IOH)(Max)(mA): 20/-20; tpd @ Nom Voltage(Max)(ns): 35.1,18.1,12.9,11,7.9,6.7; Logic: True; Sub-Family: Non-Inverting Buffer/Driver; 3-State Output: No; DatasheetVersion: SCES579I; PackageReference: DSF0006A; Supplier 1: Mouser; Supplier Part Number 1: 595-SN74AUP1G17DSFR; Supplier 2: Digi-Key; Supplier Part Number 2: 296-27272-2-ND; Supplier 3: Digi-Key; Supplier Part Number 3: 296-27272-1-ND; Supplier 4: Digi-Key; Supplier Part Number 4: 296-27272-6-ND; Input Type: CMOS; Operating Temperature Range(C): -40 to 85; ComponentLink1Description: Manufacturer URL; ComponentLink1URL: http://www.ti.com/; ComponentLink2Description: Datasheet; ComponentLink2URL: http://www.ti.com/lit/ds/symlink/sn74aup1g17.pdf
footprint DSF0006A_V (SON, 6-Leads, Body 1x1mm, Pitch 0.35mm, TI Recommend)
part A pins: 2 A (in) "Input", 4 Y (out) "Output"
part B pins: 1 NC "Not connected", 3 GND (power) "Ground", 5 NC "Not connected", 6 VCC (power) "Power pin"

## SN74AUP1G17MDCKREP
designator U?
Enhanced Product Low-Power Single Schmitt-Trigger Buffer, DCK0005A, LARGE T&R; Generic Part Number: SN74AUP1G17-EP; Manufacturer: Texas Instruments; PartNumber: SN74AUP1G17MDCKREP; VCC(Min)(V): 0.8; VCC(Max)(V): 3.6; Output Type: CMOS; ICC @ Nom Voltage(Max)(mA): 0.0009; Bits(#): 1; F @ Nom Voltage(Max)(Mhz): 100; Rating: HiRel Enhanced Product; Technology Family: AUP; Voltage(Nom)(V): 0.8,1.2,1.5,1.8,2.5,3.3; Schmitt Trigger: Yes; Output Drive (IOL/IOH)(Max)(mA): 20/-20; tpd @ Nom Voltage(Max)(ns): 28,20,17,13,11; Logic: True; Sub-Family: Non-Inverting Buffer/Driver; 3-State Output: No; DatasheetVersion: SCES684; PackageReference: DCK0005A; Supplier 1: Mouser; Supplier Part Number 1: 595-SN74AUP17MDCKREP; Supplier 2: Digi-Key; Supplier Part Number 2: 296-22293-2-ND; Supplier 3: Digi-Key; Supplier Part Number 3: 296-22293-1-ND; Supplier 4: Digi-Key; Supplier Part Number 4: 296-22293-6-ND; Input Type: CMOS; Operating Temperature Range(C): -55 to 125; ComponentLink1Description: Manufacturer URL; ComponentLink1URL: http://www.ti.com/; ComponentLink2Description: Datasheet; ComponentLink2URL: http://www.ti.com/lit/ds/symlink/sn74aup1g17-ep.pdf
footprint DCK0005A_N (SOT23, 5-Leads, Body 2.15x1.4mm, Pitch 0.65mm, IPC Medium Density)
footprint DCK0005A_M (SOT23, 5-Leads, Body 2.15x1.4mm, Pitch 0.65mm, IPC Low Density)
footprint DCK0005A_L (SOT23, 5-Leads, Body 2.15x1.4mm, Pitch 0.65mm, IPC High Density)
part A pins: 2 A (in) "Input", 4 Y (out) "Output"
part B pins: 1 NC "Ground", 3 GND (power) "Ground Pin", 5 VCC (power) "Power Pin"

## SN74AUP1G17YFPR
designator U?
Low-Power Single Schmitt-Trigger Buffer, YZP0004AAAA, LARGE T&R; Generic Part Number: SN74AUP1G17; Manufacturer: Texas Instruments; PartNumber: SN74AUP1G17YFPR; VCC(Min)(V): 0.8; VCC(Max)(V): 3.6; Output Type: CMOS; ICC @ Nom Voltage(Max)(mA): 0.0009; Bits(#): 1; F @ Nom Voltage(Max)(Mhz): 100; Rating: Catalog; Technology Family: AUP; Voltage(Nom)(V): 0.8,1.2,1.5,1.8,2.5,3.3; Schmitt Trigger: Yes; Output Drive (IOL/IOH)(Max)(mA): 20/-20; tpd @ Nom Voltage(Max)(ns): 35.1,18.1,12.9,11,7.9,6.7; Logic: True; Sub-Family: Non-Inverting Buffer/Driver; 3-State Output: No; DatasheetVersion: SCES579I; PackageReference: YZP0004AAAA; Supplier 1: Mouser; Supplier Part Number 1: 595-SN74AUP1G17YFPR; Supplier 2: Digi-Key; Supplier Part Number 2: 296-25200-2-ND; Supplier 3: Digi-Key; Supplier Part Number 3: 296-25200-1-ND; Supplier 4: Digi-Key; Supplier Part Number 4: 296-25200-6-ND; Input Type: CMOS; Operating Temperature Range(C): -40 to 85; ComponentLink1Description: Manufacturer URL; ComponentLink1URL: http://www.ti.com/; ComponentLink2Description: Datasheet; ComponentLink2URL: http://www.ti.com/lit/ds/symlink/sn74aup1g17.pdf
footprint YZP0004AAAA (BGA, 4-Balls, Body 0.76x0.76mm, Pitch 0.4mm)
part A pins: A1 A (in) "Input", B2 Y (out) "Output"
part B pins: A2 VCC (power) "Power pin", B1 GND (power) "Ground"

## SN74AUP1G17YZPR
designator U?
Low-Power Single Schmitt-Trigger Buffer, YZP0005ADAD, LARGE T&R; Generic Part Number: SN74AUP1G17; Manufacturer: Texas Instruments; PartNumber: SN74AUP1G17YZPR; VCC(Min)(V): 0.8; VCC(Max)(V): 3.6; Output Type: CMOS; ICC @ Nom Voltage(Max)(mA): 0.0009; Bits(#): 1; F @ Nom Voltage(Max)(Mhz): 100; Rating: Catalog; Technology Family: AUP; Voltage(Nom)(V): 0.8,1.2,1.5,1.8,2.5,3.3; Schmitt Trigger: Yes; Output Drive (IOL/IOH)(Max)(mA): 20/-20; tpd @ Nom Voltage(Max)(ns): 35.1,18.1,12.9,11,7.9,6.7; Logic: True; Sub-Family: Non-Inverting Buffer/Driver; 3-State Output: No; DatasheetVersion: SCES579I; PackageReference: YZP0005ADAD; Supplier 1: Mouser; Supplier Part Number 1: 595-SN74AUP1G17YZPR; Supplier 2: Digi-Key; Supplier Part Number 2: 296-19078-2-ND; Supplier 3: Digi-Key; Supplier Part Number 3: 296-19078-1-ND; Input Type: CMOS; Operating Temperature Range(C): -40 to 85; ComponentLink1Description: Manufacturer URL; ComponentLink1URL: http://www.ti.com/; ComponentLink2Description: Datasheet; ComponentLink2URL: http://www.ti.com/lit/ds/symlink/sn74aup1g17.pdf
footprint YZP0005ADAD (BGA, 5-Balls, Body 1.39x0.89mm, Pitch 0.5mm)
part A pins: B1 A (in) "Input", C2 Y (out) "Output"
part B pins: A1 DNU "Do not use", A2 VCC (power) "Power", C1 GND (power) "Ground"

## SN74AUP1G32DBVR
designator U?
Low-Power Single 2-Input Positive-OR Gate, DBV0005A, LARGE T&R; Generic Part Number: SN74AUP1G32; Manufacturer: Texas Instruments; PartNumber: SN74AUP1G32DBVR; VCC(Min)(V): 0.8; VCC(Max)(V): 3.6; Output Type: CMOS; ICC @ Nom Voltage(Max)(mA): 0.0009; Bits(#): 1; F @ Nom Voltage(Max)(Mhz): 100; Rating: Catalog; Technology Family: AUP; Voltage(Nom)(V): 0.8,1.2,1.5,1.8,2.5,3.3; Schmitt Trigger: No; Output Drive (IOL/IOH)(Max)(mA): 20/-20; tpd @ Nom Voltage(Max)(ns): 32.8,21.6,14.6,11.4,7.9,6.4; Logic: True; Gate Type: OR; Sub-Family: OR Gate; DatasheetVersion: SCES580I; PackageReference: DBV0005A; Supplier 1: Mouser; Supplier Part Number 1: 595-SN74AUP1G32DBVR; Supplier 2: Digi-Key; Supplier Part Number 2: 296-19079-2-ND; Supplier 3: Digi-Key; Supplier Part Number 3: 296-19079-1-ND; Supplier 4: Digi-Key; Supplier Part Number 4: 296-19079-6-ND; Input Type: CMOS; Operating Temperature Range(C): -40 to 85; 3-State Output: No; ComponentLink1Description: Manufacturer URL; ComponentLink1URL: http://www.ti.com/; ComponentLink2Description: Datasheet; ComponentLink2URL: http://www.ti.com/lit/ds/symlink/sn74aup1g32.pdf
footprint DBV0005A_N (SOT23, 5-Leads, Body 3.05x1.75mm, Pitch 0.95mm, IPC Medium Density)
footprint DBV0005A_M (SOT23, 5-Leads, Body 3.05x1.75mm, Pitch 0.95mm, IPC Low Density)
footprint DBV0005A_L (SOT23, 5-Leads, Body 3.05x1.75mm, Pitch 0.95mm, IPC High Density)
part A pins: 1 A (in) "Input A", 2 B (in) "Input B", 4 Y (out) "Output Y"
part B pins: 3 GND (power) "Ground Pin", 5 VCC (power) "Power Pin"

## SN74AUP1G32DBVT
designator U?
Low-Power Single 2-Input Positive-OR Gate, DBV0005A, SMALL T&R; Generic Part Number: SN74AUP1G32; Manufacturer: Texas Instruments; PartNumber: SN74AUP1G32DBVT; VCC(Min)(V): 0.8; VCC(Max)(V): 3.6; Output Type: CMOS; ICC @ Nom Voltage(Max)(mA): 0.0009; Bits(#): 1; F @ Nom Voltage(Max)(Mhz): 100; Rating: Catalog; Technology Family: AUP; Voltage(Nom)(V): 0.8,1.2,1.5,1.8,2.5,3.3; Schmitt Trigger: No; Output Drive (IOL/IOH)(Max)(mA): 20/-20; tpd @ Nom Voltage(Max)(ns): 32.8,21.6,14.6,11.4,7.9,6.4; Logic: True; Gate Type: OR; Sub-Family: OR Gate; DatasheetVersion: SCES580I; PackageReference: DBV0005A; Supplier 1: Mouser; Supplier Part Number 1: 595-SN74AUP1G32DBVT; Supplier 2: Digi-Key; Supplier Part Number 2: 296-32261-2-ND; Supplier 3: Digi-Key; Supplier Part Number 3: 296-32261-1-ND; Supplier 4: Digi-Key; Supplier Part Number 4: 296-32261-6-ND; Input Type: CMOS; Operating Temperature Range(C): -40 to 85; 3-State Output: No; ComponentLink1Description: Manufacturer URL; ComponentLink1URL: http://www.ti.com/; ComponentLink2Description: Datasheet; ComponentLink2URL: http://www.ti.com/lit/ds/symlink/sn74aup1g32.pdf
footprint DBV0005A_N (SOT23, 5-Leads, Body 3.05x1.75mm, Pitch 0.95mm, IPC Medium Density)
footprint DBV0005A_M (SOT23, 5-Leads, Body 3.05x1.75mm, Pitch 0.95mm, IPC Low Density)
footprint DBV0005A_L (SOT23, 5-Leads, Body 3.05x1.75mm, Pitch 0.95mm, IPC High Density)
part A pins: 1 A (in) "Input A", 2 B (in) "Input B", 4 Y (out) "Output Y"
part B pins: 3 GND (power) "Ground Pin", 5 VCC (power) "Power Pin"

## SN74AUP1G32DCKR
designator U?
Low-Power Single 2-Input Positive-OR Gate, DCK0005A, LARGE T&R; Generic Part Number: SN74AUP1G32; Manufacturer: Texas Instruments; PartNumber: SN74AUP1G32DCKR; VCC(Min)(V): 0.8; VCC(Max)(V): 3.6; Output Type: CMOS; ICC @ Nom Voltage(Max)(mA): 0.0009; Bits(#): 1; F @ Nom Voltage(Max)(Mhz): 100; Rating: Catalog; Technology Family: AUP; Voltage(Nom)(V): 0.8,1.2,1.5,1.8,2.5,3.3; Schmitt Trigger: No; Output Drive (IOL/IOH)(Max)(mA): 20/-20; tpd @ Nom Voltage(Max)(ns): 32.8,21.6,14.6,11.4,7.9,6.4; Logic: True; Gate Type: OR; Sub-Family: OR Gate; DatasheetVersion: SCES580I; PackageReference: DCK0005A; Supplier 1: Mouser; Supplier Part Number 1: 595-SN74AUP1G32DCKR; Supplier 2: Digi-Key; Supplier Part Number 2: 296-18714-2-ND; Supplier 3: Digi-Key; Supplier Part Number 3: 296-18714-1-ND; Supplier 4: Digi-Key; Supplier Part Number 4: 296-18714-6-ND; Input Type: CMOS; Operating Temperature Range(C): -40 to 85; 3-State Output: No; ComponentLink1Description: Manufacturer URL; ComponentLink1URL: http://www.ti.com/; ComponentLink2Description: Datasheet; ComponentLink2URL: http://www.ti.com/lit/ds/symlink/sn74aup1g32.pdf
footprint DCK0005A_N (SOT23, 5-Leads, Body 2.15x1.4mm, Pitch 0.65mm, IPC Medium Density)
footprint DCK0005A_M (SOT23, 5-Leads, Body 2.15x1.4mm, Pitch 0.65mm, IPC Low Density)
footprint DCK0005A_L (SOT23, 5-Leads, Body 2.15x1.4mm, Pitch 0.65mm, IPC High Density)
part A pins: 1 A (in) "Input A", 2 B (in) "Input B", 4 Y (out) "Output Y"
part B pins: 3 GND (power) "Ground Pin", 5 VCC (power) "Power Pin"

## SN74AUP1G32DCKT
designator U?
Low-Power Single 2-Input Positive-OR Gate, DCK0005A, SMALL T&R; Generic Part Number: SN74AUP1G32; Manufacturer: Texas Instruments; PartNumber: SN74AUP1G32DCKT; VCC(Min)(V): 0.8; VCC(Max)(V): 3.6; Output Type: CMOS; ICC @ Nom Voltage(Max)(mA): 0.0009; Bits(#): 1; F @ Nom Voltage(Max)(Mhz): 100; Rating: Catalog; Technology Family: AUP; Voltage(Nom)(V): 0.8,1.2,1.5,1.8,2.5,3.3; Schmitt Trigger: No; Output Drive (IOL/IOH)(Max)(mA): 20/-20; tpd @ Nom Voltage(Max)(ns): 32.8,21.6,14.6,11.4,7.9,6.4; Logic: True; Gate Type: OR; Sub-Family: OR Gate; DatasheetVersion: SCES580I; PackageReference: DCK0005A; Supplier 1: Mouser; Supplier Part Number 1: 595-SN74AUP1G32DCKT; Supplier 2: Digi-Key; Supplier Part Number 2: 296-32262-2-ND; Supplier 3: Digi-Key; Supplier Part Number 3: 296-32262-1-ND; Supplier 4: Digi-Key; Supplier Part Number 4: 296-32262-6-ND; Input Type: CMOS; Operating Temperature Range(C): -40 to 85; 3-State Output: No; ComponentLink1Description: Manufacturer URL; ComponentLink1URL: http://www.ti.com/; ComponentLink2Description: Datasheet; ComponentLink2URL: http://www.ti.com/lit/ds/symlink/sn74aup1g32.pdf
footprint DCK0005A_N (SOT23, 5-Leads, Body 2.15x1.4mm, Pitch 0.65mm, IPC Medium Density)
footprint DCK0005A_M (SOT23, 5-Leads, Body 2.15x1.4mm, Pitch 0.65mm, IPC Low Density)
footprint DCK0005A_L (SOT23, 5-Leads, Body 2.15x1.4mm, Pitch 0.65mm, IPC High Density)
part A pins: 1 A (in) "Input A", 2 B (in) "Input B", 4 Y (out) "Output Y"
part B pins: 3 GND (power) "Ground Pin", 5 VCC (power) "Power Pin"

## SN74AUP1G32DPWR
designator U?
Low-Power Single 2-Input Positive-OR Gate, DPW0004A, LARGE T&R; Generic Part Number: SN74AUP1G32; Manufacturer: Texas Instruments; PartNumber: SN74AUP1G32DPWR; VCC(Min)(V): 0.8; VCC(Max)(V): 3.6; Output Type: CMOS; ICC @ Nom Voltage(Max)(mA): 0.0009; Bits(#): 1; F @ Nom Voltage(Max)(Mhz): 100; Rating: Catalog; Technology Family: AUP; Voltage(Nom)(V): 0.8,1.2,1.5,1.8,2.5,3.3; Schmitt Trigger: No; Output Drive (IOL/IOH)(Max)(mA): 20/-20; tpd @ Nom Voltage(Max)(ns): 32.8,21.6,14.6,11.4,7.9,6.4; Logic: True; Gate Type: OR; Sub-Family: OR Gate; DatasheetVersion: SCES580I; PackageReference: DPW0004A; Supplier 1: Mouser; Supplier Part Number 1: 595-SN74AUP1G32DPWR; Supplier 2: Digi-Key; Supplier Part Number 2: 296-38022-2-ND; Supplier 3: Digi-Key; Supplier Part Number 3: 296-38022-1-ND; Supplier 4: Digi-Key; Supplier Part Number 4: 296-38022-6-ND; Input Type: CMOS; Operating Temperature Range(C): -40 to 85; 3-State Output: No; ComponentLink1Description: Manufacturer URL; ComponentLink1URL: http://www.ti.com/; ComponentLink2Description: Datasheet; ComponentLink2URL: http://www.ti.com/lit/ds/symlink/sn74aup1g32.pdf
footprint DPW0004A_V (SON, 5-Leads, Body 0.8x0.8mm, TI Recommend)
part A pins: 1 B (in) "Input B", 2 A (in) "Input A", 4 Y (out) "Output Y"
part B pins: 3 GND (power) "Ground", 5 VCC (power) "Power Pin"

## SN74AUP1G32DRLR
designator U?
Low-Power Single 2-Input Positive-OR Gate, DRL0005A, LARGE T&R; Generic Part Number: SN74AUP1G32; Manufacturer: Texas Instruments; PartNumber: SN74AUP1G32DRLR; VCC(Min)(V): 0.8; VCC(Max)(V): 3.6; Output Type: CMOS; ICC @ Nom Voltage(Max)(mA): 0.0009; Bits(#): 1; F @ Nom Voltage(Max)(Mhz): 100; Rating: Catalog; Technology Family: AUP; Voltage(Nom)(V): 0.8,1.2,1.5,1.8,2.5,3.3; Schmitt Trigger: No; Output Drive (IOL/IOH)(Max)(mA): 20/-20; tpd @ Nom Voltage(Max)(ns): 32.8,21.6,14.6,11.4,7.9,6.4; Logic: True; Gate Type: OR; Sub-Family: OR Gate; DatasheetVersion: SCES580I; PackageReference: DRL0005A; Supplier 1: Mouser; Supplier Part Number 1: 595-SN74AUP1G32DRLR; Supplier 2: Digi-Key; Supplier Part Number 2: 296-18315-2-ND; Supplier 3: Digi-Key; Supplier Part Number 3: 296-18315-1-ND; Supplier 4: Digi-Key; Supplier Part Number 4: 296-18315-6-ND; Input Type: CMOS; Operating Temperature Range(C): -40 to 85; 3-State Output: No; ComponentLink1Description: Manufacturer URL; ComponentLink1URL: http://www.ti.com/; ComponentLink2Description: Datasheet; ComponentLink2URL: http://www.ti.com/lit/ds/symlink/sn74aup1g32.pdf
footprint DRL0005A_N (SOT23, 5-Leads, Body 1.7x1.3mm, Pitch 0.5mm, IPC Medium Density)
footprint DRL0005A_M (SOT23, 5-Leads, Body 1.7x1.3mm, Pitch 0.5mm, IPC Low Density)
footprint DRL0005A_L (SOT23, 5-Leads, Body 1.7x1.3mm, Pitch 0.5mm, IPC High Density)
part A pins: 1 A (in) "Input A", 2 B (in) "Input B", 4 Y (out) "Output Y"
part B pins: 3 GND (power) "Ground Pin", 5 VCC (power) "Power Pin"

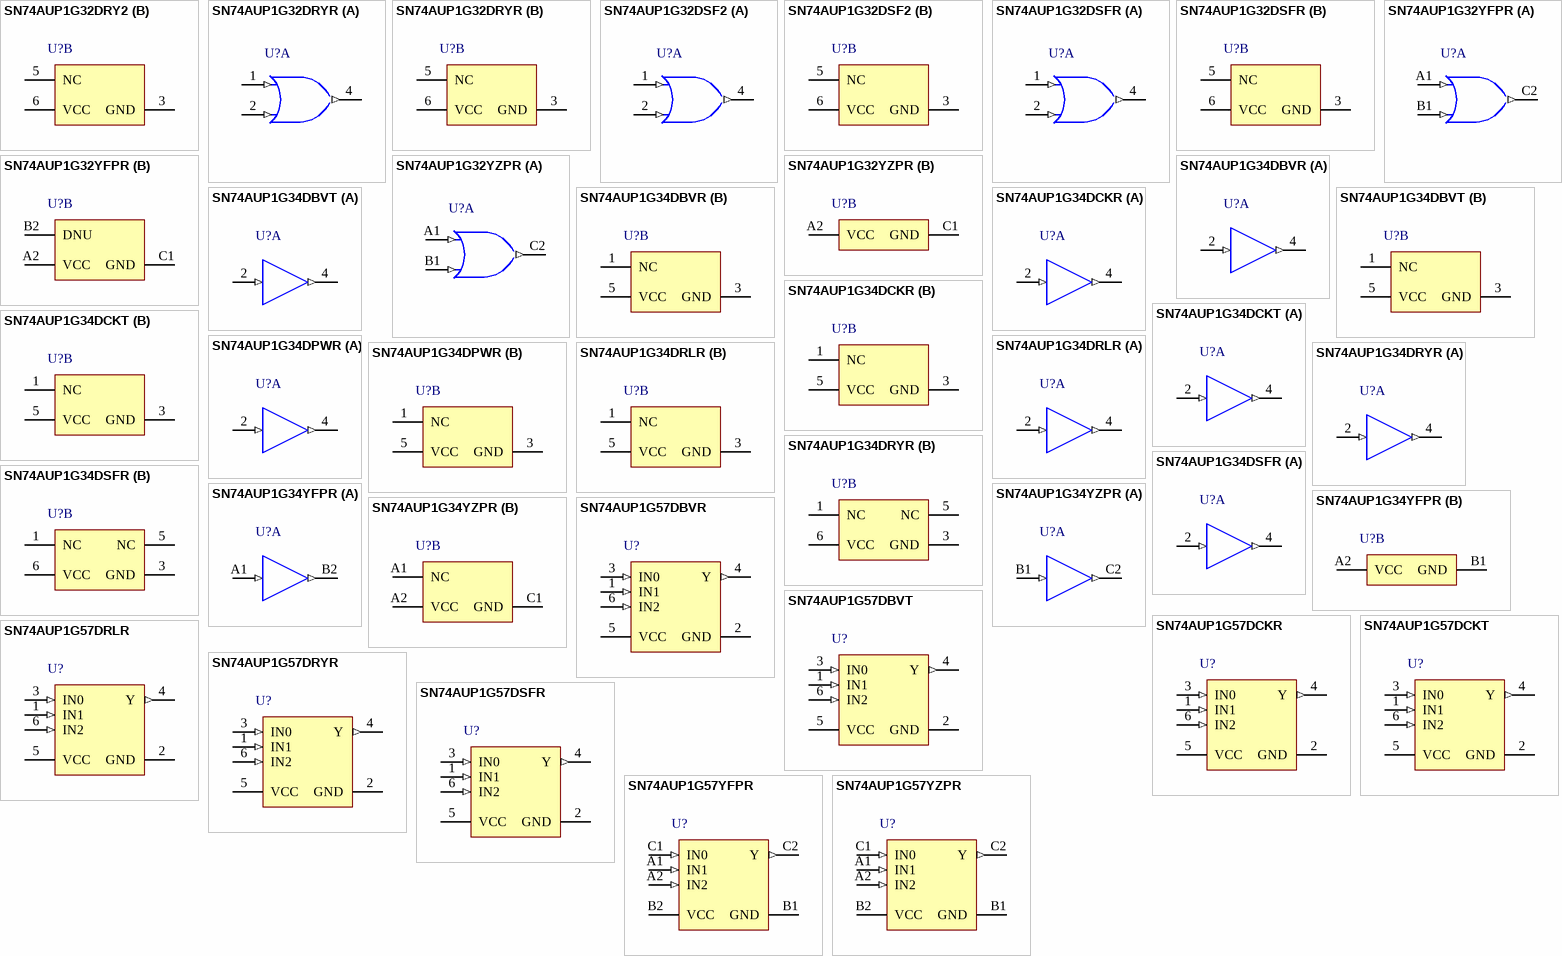
[diagram p19: symbols SN74AUP1G32DRY2 to SN74AUP1G57YZPR]

## SN74AUP1G32DRY2
designator U?
Low-Power Single 2-Input Positive-OR Gate, DRY0006A, LARGE T&R; Generic Part Number: SN74AUP1G32; Manufacturer: Texas Instruments; PartNumber: SN74AUP1G32DRY2; VCC(Min)(V): 0.8; VCC(Max)(V): 3.6; Output Type: CMOS; ICC @ Nom Voltage(Max)(mA): 0.0009; Bits(#): 1; F @ Nom Voltage(Max)(Mhz): 100; Rating: Catalog; Technology Family: AUP; Voltage(Nom)(V): 0.8,1.2,1.5,1.8,2.5,3.3; Schmitt Trigger: No; Output Drive (IOL/IOH)(Max)(mA): 20/-20; tpd @ Nom Voltage(Max)(ns): 32.8,21.6,14.6,11.4,7.9,6.4; Logic: True; Gate Type: OR; Sub-Family: OR Gate; DatasheetVersion: SCES580I; PackageReference: DRY0006A; Supplier 1: Mouser; Supplier Part Number 1: 595-SN74AUP1G32DRY2; Supplier 2: Digi-Key; Supplier Part Number 2: SN74AUP1G32DRY2-ND; Input Type: CMOS; Operating Temperature Range(C): -40 to 85; 3-State Output: No; ComponentLink1Description: Manufacturer URL; ComponentLink1URL: http://www.ti.com/; ComponentLink2Description: Datasheet; ComponentLink2URL: http://www.ti.com/lit/ds/symlink/sn74aup1g32.pdf
footprint DRY0006A_V (SON, 6-Leads, Body 1.45x1mm, Pitch 0.5mm)
part A pins: 1 A (in) "Input A", 2 B (in) "Input B", 4 Y (out) "Output Y"
part B pins: 3 GND (power) "Ground", 5 NC "No internal connection", 6 VCC (power) "Power Pin"

## SN74AUP1G32DRYR
designator U?
Low-Power Single 2-Input Positive-OR Gate, DRY0006A, LARGE T&R; Generic Part Number: SN74AUP1G32; Manufacturer: Texas Instruments; PartNumber: SN74AUP1G32DRYR; VCC(Min)(V): 0.8; VCC(Max)(V): 3.6; Output Type: CMOS; ICC @ Nom Voltage(Max)(mA): 0.0009; Bits(#): 1; F @ Nom Voltage(Max)(Mhz): 100; Rating: Catalog; Technology Family: AUP; Voltage(Nom)(V): 0.8,1.2,1.5,1.8,2.5,3.3; Schmitt Trigger: No; Output Drive (IOL/IOH)(Max)(mA): 20/-20; tpd @ Nom Voltage(Max)(ns): 32.8,21.6,14.6,11.4,7.9,6.4; Logic: True; Gate Type: OR; Sub-Family: OR Gate; DatasheetVersion: SCES580I; PackageReference: DRY0006A; Supplier 1: Mouser; Supplier Part Number 1: 595-SN74AUP1G32DRYR; Supplier 2: Digi-Key; Supplier Part Number 2: 296-27275-2-ND; Supplier 3: Digi-Key; Supplier Part Number 3: 296-27275-1-ND; Supplier 4: Digi-Key; Supplier Part Number 4: 296-27275-6-ND; Input Type: CMOS; Operating Temperature Range(C): -40 to 85; 3-State Output: No; ComponentLink1Description: Manufacturer URL; ComponentLink1URL: http://www.ti.com/; ComponentLink2Description: Datasheet; ComponentLink2URL: http://www.ti.com/lit/ds/symlink/sn74aup1g32.pdf
footprint DRY0006A_V (SON, 6-Leads, Body 1.45x1mm, Pitch 0.5mm)
part A pins: 1 A (in) "Input A", 2 B (in) "Input B", 4 Y (out) "Output Y"
part B pins: 3 GND (power) "Ground", 5 NC "No internal connection", 6 VCC (power) "Power Pin"

## SN74AUP1G32DSF2
designator U?
Low-Power Single 2-Input Positive-OR Gate, DSF0006A, LARGE T&R; Generic Part Number: SN74AUP1G32; Manufacturer: Texas Instruments; PartNumber: SN74AUP1G32DSF2; VCC(Min)(V): 0.8; VCC(Max)(V): 3.6; Output Type: CMOS; ICC @ Nom Voltage(Max)(mA): 0.0009; Bits(#): 1; F @ Nom Voltage(Max)(Mhz): 100; Rating: Catalog; Technology Family: AUP; Voltage(Nom)(V): 0.8,1.2,1.5,1.8,2.5,3.3; Schmitt Trigger: No; Output Drive (IOL/IOH)(Max)(mA): 20/-20; tpd @ Nom Voltage(Max)(ns): 32.8,21.6,14.6,11.4,7.9,6.4; Logic: True; Gate Type: OR; Sub-Family: OR Gate; DatasheetVersion: SCES580I; PackageReference: DSF0006A; Supplier 1: Mouser; Supplier Part Number 1: 595-SN74AUP1G32DSF2; Supplier 2: Digi-Key; Supplier Part Number 2: SN74AUP1G32DSF2-ND; Input Type: CMOS; Operating Temperature Range(C): -40 to 85; 3-State Output: No; ComponentLink1Description: Manufacturer URL; ComponentLink1URL: http://www.ti.com/; ComponentLink2Description: Datasheet; ComponentLink2URL: http://www.ti.com/lit/ds/symlink/sn74aup1g32.pdf
footprint DSF0006A_V (SON, 6-Leads, Body 1x1mm, Pitch 0.35mm, TI Recommend)
part A pins: 1 A (in) "Input", 2 B (in) "Input", 4 Y (out) "Output"
part B pins: 3 GND (power) "Ground", 5 NC "Not connected", 6 VCC (power) "Power pin"

## SN74AUP1G32DSFR
designator U?
Low-Power Single 2-Input Positive-OR Gate, DSF0006A, LARGE T&R; Generic Part Number: SN74AUP1G32; Manufacturer: Texas Instruments; PartNumber: SN74AUP1G32DSFR; VCC(Min)(V): 0.8; VCC(Max)(V): 3.6; Output Type: CMOS; ICC @ Nom Voltage(Max)(mA): 0.0009; Bits(#): 1; F @ Nom Voltage(Max)(Mhz): 100; Rating: Catalog; Technology Family: AUP; Voltage(Nom)(V): 0.8,1.2,1.5,1.8,2.5,3.3; Schmitt Trigger: No; Output Drive (IOL/IOH)(Max)(mA): 20/-20; tpd @ Nom Voltage(Max)(ns): 32.8,21.6,14.6,11.4,7.9,6.4; Logic: True; Gate Type: OR; Sub-Family: OR Gate; DatasheetVersion: SCES580I; PackageReference: DSF0006A; Supplier 1: Mouser; Supplier Part Number 1: 595-SN74AUP1G32DSFR; Supplier 2: Digi-Key; Supplier Part Number 2: 296-27310-2-ND; Supplier 3: Digi-Key; Supplier Part Number 3: 296-27310-1-ND; Supplier 4: Digi-Key; Supplier Part Number 4: 296-27310-6-ND; Input Type: CMOS; Operating Temperature Range(C): -40 to 85; 3-State Output: No; ComponentLink1Description: Manufacturer URL; ComponentLink1URL: http://www.ti.com/; ComponentLink2Description: Datasheet; ComponentLink2URL: http://www.ti.com/lit/ds/symlink/sn74aup1g32.pdf
footprint DSF0006A_V (SON, 6-Leads, Body 1x1mm, Pitch 0.35mm, TI Recommend)
part A pins: 1 A (in) "Input", 2 B (in) "Input", 4 Y (out) "Output"
part B pins: 3 GND (power) "Ground", 5 NC "Not connected", 6 VCC (power) "Power pin"